# EAGLE library part SC4524B (library Lectrobox)
Semtech SC4524B/D 18V 2A Step-Down Buck Switching Regulator
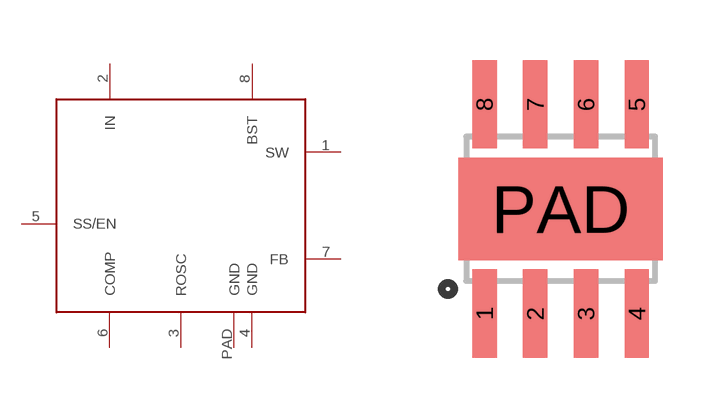
[diagram p5: symbol with the pads of SOIC-8-HEATSINK; footprint SOIC-8-HEATSINK]

Designator prefix -

## SC4524B  [SOIC-8-HEATSINK]
1  SW
2  IN  pwr
3  ROSC  out
4  GND  pwr
5  SS/EN
6  COMP
7  FB
8  BST
PAD  GND  pwr

## Footprint SOIC-8-HEATSINK (pad centres in mm)
smd 0.61 x 2.21: 1 -1.905,-2.616; 2 -0.635,-2.616; 3 0.635,-2.616; 4 1.905,-2.616; 5 1.905,2.616; 6 0.635,2.616; 7 -0.635,2.616; 8 -1.905,2.616
smd 5.105 x 2.565: PAD 0,0